# Altium footprint library NX2520SA-24.000000MHZ-B8.PcbLib: 2 footprints
Each footprint in its own frame and in the unit in brackets; x right, y up, seen from the top. Pads: shape width x height; smd on the part's side, far side on the other; paste and mask are expansions set on the pad; w line width, h text height; cw(c..) or ccw(c..) is an arc to the next point about the centre after c.
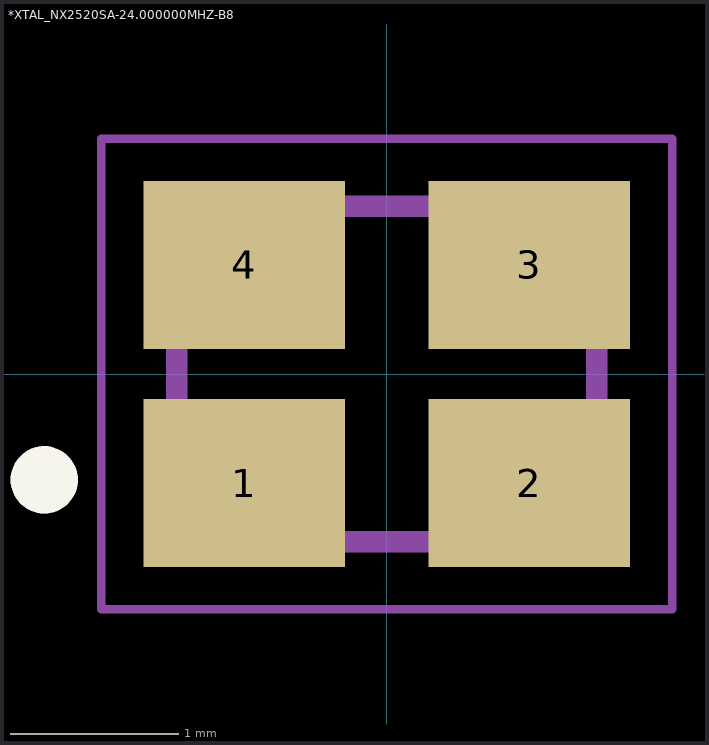
[diagram p0: the footprints below, top view; thin cyan lines are the x and y axes]

## *XTAL_NX2520SA-24.000000MHZ-B8 [mm]
pads (4):
  rect 1.2x1 smd: 1(-0.85,-0.65) 2(0.85,-0.65) 3(0.85,0.65) 4(-0.85,0.65)
Top Overlay:
  circle w0.3: c-2.04,-0.63 r0.05
Mechanical 4:
  circle w0.3: c-2.04,-0.63 r0.05
  circle w0.3: c-2.04,-0.63 r0.05
  lines w0.127: -1.25,-1 -1.25,1 ; -1.25,-1 1.25,-1 ; -1.25,-1 -1.25,1 ; -1.25,-1 1.25,-1 ; -1.25,1 1.25,1 ; -1.25,1 1.25,1 ; 1.25,-1 1.25,1 ; 1.25,-1 1.25,1
Mechanical 16:
  lines w0.05: -1.7,-1.4 -1.7,1.4 1.7,1.4 1.7,-1.4 -1.7,-1.4

## PCBComponent_1 [mm]